# Altium footprint library 114-00841-68-6-ND.PcbLib: 1 footprints
Each footprint in its own frame and in the unit in brackets; x right, y up, seen from the top. Pads: shape width x height; smd on the part's side, far side on the other; paste and mask are expansions set on the pad; w line width, h text height; cw(c..) or ccw(c..) is an arc to the next point about the centre after c.
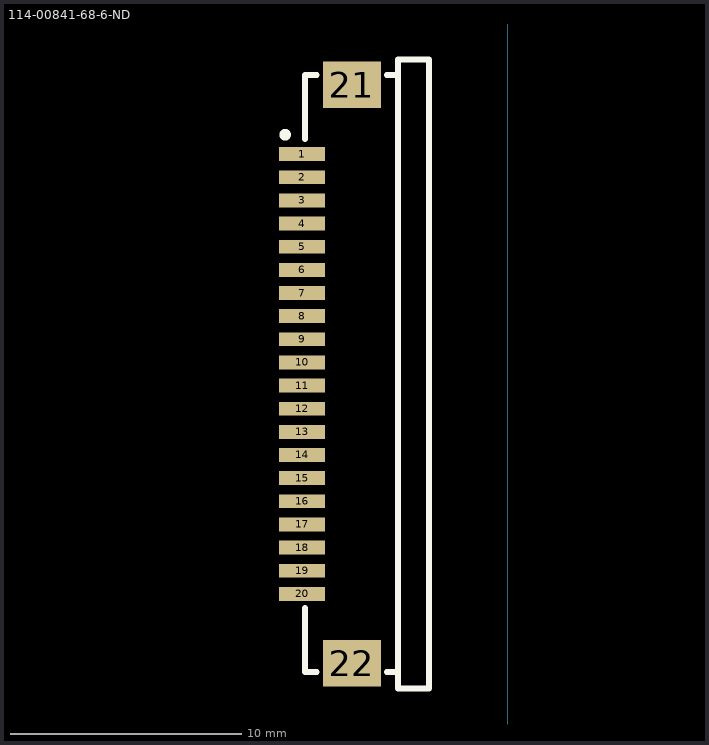
[diagram p0: the footprint, top view; thin cyan lines are the x and y axes]

## 114-00841-68-6-ND [mm] "SD Card Socket"
pads (22):
  rect 2x0.6 smd: 1(-8.89,-9.652) 2(-8.89,-10.652) 3(-8.89,-11.652) 4(-8.89,-12.652) 5(-8.89,-13.652) 6(-8.89,-14.652) 7(-8.89,-15.652) 8(-8.89,-16.652) 9(-8.89,-17.652) 10(-8.89,-18.652) 11(-8.89,-19.652) 12(-8.89,-20.652) 13(-8.89,-21.652) 14(-8.89,-22.652) 15(-8.89,-23.652) 16(-8.89,-24.652) 17(-8.89,-25.652) 18(-8.89,-26.652) 19(-8.89,-27.652) 20(-8.89,-28.652)
  rect 2.5x2 smd: 21(-6.74,-6.652) 22(-6.74,-31.652)
Top Overlay:
  circle w0.25: c-9.625,-8.814 r0.125
  lines w0.254: -8.763,-29.261 -8.763,-32.029 -8.255,-32.029 ; -8.763,-8.992 -8.763,-6.223 -8.255,-6.223 ; -5.232,-32.029 -4.775,-32.029 ; -5.232,-6.223 -4.775,-6.223 ; -4.75,-32.741 -3.404,-32.741 -3.404,-5.563 -4.75,-5.563 -4.75,-32.741
3D body: height 2.44, standoff 0, extent -8.763,-32.741 -3.404,-5.563